# EAGLE library part DAC70502DRXR (library dacx0502)
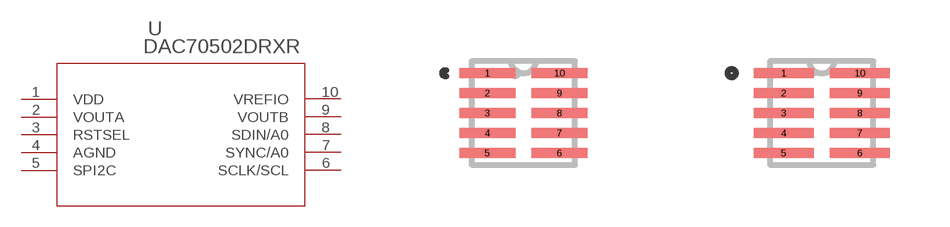
[diagram p0: symbol with the pads of SON_2DRXR_TEX; footprints SON_2DRXR_TEX, SON_2DRXR_TEX-M]

Designator prefix U

## DAC70502DRXRSON_2DRXR_TEX (Copyright: Copyright (C) 2023 Ultra Librarian. All rights reserved.; Manufacturer_Part_Number: DAC70502DRXR; Mfr_Name: Texas Instruments)  [SON_2DRXR_TEX]
1  VDD  pwr
2  VOUTA  out
3  RSTSEL  pas
4  AGND  pas
5  SPI2C  pas
6  SCLK/SCL  pas
7  SYNC/A0  pas
8  SDIN/A0  pas
9  VOUTB  out
10  VREFIO  pwr

## DAC70502DRXRSON_2DRXR_TEX-M (Copyright: Copyright (C) 2023 Ultra Librarian. All rights reserved.; Manufacturer_Part_Number: DAC70502DRXR; Mfr_Name: Texas Instruments)  [SON_2DRXR_TEX-M]
Pads as for SON_2DRXR_TEX

## DAC70502DRXRSON_2DRXR_TEX-L (Copyright: Copyright (C) 2023 Ultra Librarian. All rights reserved.; Manufacturer_Part_Number: DAC70502DRXR; Mfr_Name: Texas Instruments)  [SON_2DRXR_TEX-L]
Pads as for SON_2DRXR_TEX

## Footprint SON_2DRXR_TEX (pad centres in mm)
smd 1.397 x 0.254: 1 -0.902,1; 2 -0.902,0.5; 3 -0.902,0; 4 -0.902,-0.5; 5 -0.902,-1; 6 0.902,-1; 7 0.902,-0.5; 8 0.902,0; 9 0.902,0.5; 10 0.902,1

## Footprint SON_2DRXR_TEX-M (pad centres in mm)
smd 1.499 x 0.254: 1 -0.953,1; 2 -0.953,0.5; 3 -0.953,0; 4 -0.953,-0.5; 5 -0.953,-1; 6 0.953,-1; 7 0.953,-0.5; 8 0.953,0; 9 0.953,0.5; 10 0.953,1

## Footprint SON_2DRXR_TEX-L (pad centres in mm)
smd 1.295 x 0.254: 1 -0.851,1; 2 -0.851,0.5; 3 -0.851,0; 4 -0.851,-0.5; 5 -0.851,-1; 6 0.851,-1; 7 0.851,-0.5; 8 0.851,0; 9 0.851,0.5; 10 0.851,1